# EAGLE library part BOARD_EDGE_6PIN (library SSI)
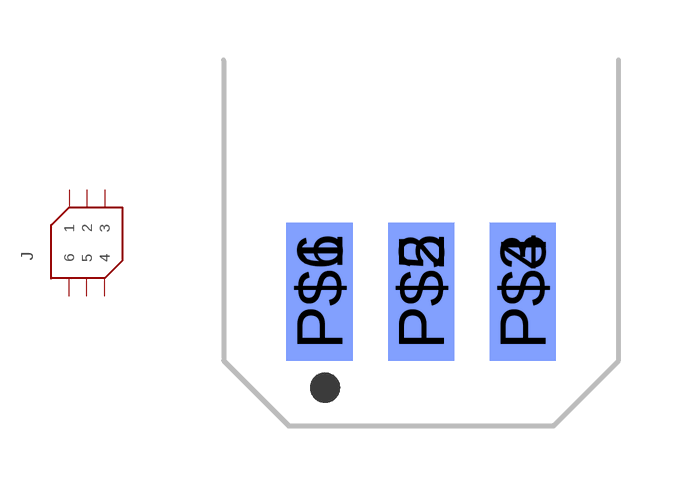
[diagram p34: symbol with the pads of BOARD_EDGE_6PIN; footprint BOARD_EDGE_6PIN]

Designator prefix J

## BOARD_EDGE_6PIN  [BOARD_EDGE_6PIN]
P$1  1
P$2  2
P$3  3
P$4  4
P$5  5
P$6  6

## Footprint BOARD_EDGE_6PIN (pad centres in mm)
smd 1.651 x 3.454: P$1 2.4,3.353; P$2 4.94,3.353; P$3 7.48,3.353
smd 1.651 x 3.454 bottom: P$4 7.48,3.353; P$5 4.94,3.353; P$6 2.4,3.353